# Altium integrated library Altium_Resistor.IntLib: 504 symbols (part 3 of 10)
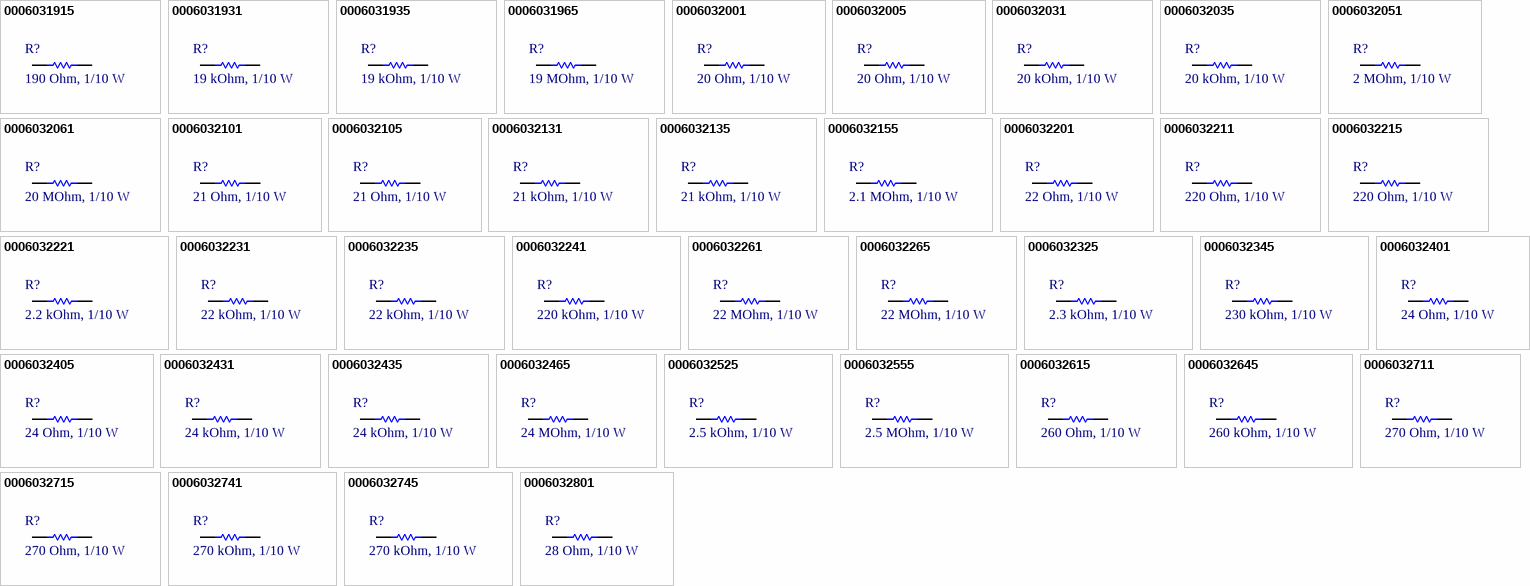
[diagram p17: symbols 0006031915 to 0006032801]

## 0006032215
designator R?, comment 220 Ohm, 1/10 W
RES, size 0603, 220 Ohm, 1/10 W, 5%; Manufacturer: Panasonic; Manufacturer Part Number: ERJ-UP3J221V; Rated Power: 1/10 W; Resistance: 220 Ohm; Tolerance: +/-5%; Supplier 1 URL: https://www.mouser.vn/ProductDetail/Panasonic/ERJ-UP3J221V?qs=GedFDFLaBXFBy%2FTkMi3Z8w%3D%3D; Supplier 3 URL: https://www.thegioiic.com/dien-tro-220-ohm-0603-5; Value: 220 Ohm, 1/10 W; Supplier 2 URL: https://www.digikey.com/en/products/detail/panasonic-electronic-components/ERJ-UP3J221V/12092892?s=N4IgTCBcDaIGxwOwFoCiAlAUsgqgBQGZMwwBGANRAF0BfIA; Packaging: Tape and Reel; Supplier 1: Mouser; Supplier 1 Part Number: 667-ERJ-UP3J221V; Supplier 2: Digi-Key; Supplier 2 Part Number: 10-ERJ-UP3J221VTR-ND - Tape & Reel (TR); Supplier 3: thegioiic; Supplier 3 Part Number: N/A; ComponentLink1Description: Datasheet; ComponentLink1URL: https://www.mouser.vn/datasheet/2/315/Panasonic_Resistors_Thick_Film_Anti_Sulf_Anti_Surg-1825099.pdf; Mount: SMD/SMT; Operating Temperature Max: + 85 C; Operating Temperature Min: - 40 C; Package / Case: 0603; LCSC Part #: N/A
footprint RES_0603 (Chip Resistor, 2-Leads, Body 1.55x0.85mm, IPC Medium Density)
pins: 1, 2

## 0006032221
designator R?, comment 2.2 kOhm, 1/10 W
RES, size 0603, 2.2  kOhm, 1/10 W, 1%; Manufacturer: YAGEO; Manufacturer Part Number: RC0603FR-072K2L; Rated Power: 1/10 W; Tolerance: +/-1%; Resistance: 2.2  kOhm; Supplier 1 URL: https://www.mouser.com/ProductDetail/YAGEO/RC0603FR-072K2L?qs=diQw95jMAeOQmNpe2MM%252BPw%3D%3D; Supplier 3 URL: N/A; Value: 2.2 kOhm, 1/10 W; Supplier 2 URL: https://www.digikey.com/en/products/detail/yageo/RC0603FR-072K2L/727016?s=N4IgTCBcDaIEoGEAMA2JBmAYnAtEg7GANJgAyIAugL5A; Packaging: Tape and Reel; Supplier 1: Mouser; Supplier 1 Part Number: 603-RC0603FR-072K2L; Supplier 2: Digi-Key; Supplier 2 Part Number: 311-2.20KHRTR-ND; Supplier 3: thegioiic; Supplier 3 Part Number: N/A; ComponentLink1Description: Datasheet; ComponentLink1URL: https://www.mouser.com/datasheet/2/447/YAGEO_PYu_RC_Group_51_RoHS_L_12-3313492.pdf; Mount: SMD/SMT; Operating Temperature Max: + 85 C; Operating Temperature Min: - 40 C; Package / Case: 0603; LCSC Part #: C114662
footprint RES_0603 (Chip Resistor, 2-Leads, Body 1.55x0.85mm, IPC Medium Density)
pins: 1, 2

## 0006032231
designator R?, comment 22 kOhm, 1/10 W
RES, size 0603, 22 kOhm, 1/10 W, 1%; Manufacturer: OEM; Resistance: 22 kOhm; Rated Power: 1/10 W; Tolerance: +/-1%; Supplier 1 URL: https://www.mouser.vn/ProductDetail/Panasonic/ERJ-UP3F2202V?qs=sGAEpiMZZMvdGkrng054twq3eZrCFN893x5tBCka%252B6wRswHHN2WaIQ%3D%3D; Supplier 3 URL: N/A; Value: 22 kOhm, 1/10 W; Supplier 2 URL: https://www.digikey.com/en/products/detail/panasonic-electronic-components/ERJ-UP3F2202V/12092693; Packaging: Tape and Reel; Supplier 1: Mouser; Supplier 1 Part Number: 667-ERJ-UP3F2202V; Supplier 2: Digi-Key; Supplier 2 Part Number: 10-ERJ-UP3F2202VTR-ND 10-ERJ-UP3F2202VCT-ND 10-ERJ-UP3F2202VDKR-ND; Supplier 3: thegioiic; Supplier 3 Part Number: N/A; Manufacturer Part Number: OEM; ComponentLink1Description: Datasheet; ComponentLink1URL: https://api.pim.na.industrial.panasonic.com/file_stream/main/fileversion/4484; Mount: SMD/SMT; Operating Temperature Max: + 85 C; Operating Temperature Min: - 40 C; Package / Case: 0603; LCSC Part #: N/A
footprint RES_0603 (Chip Resistor, 2-Leads, Body 1.55x0.85mm, IPC Medium Density)
pins: 1, 2

## 0006032235
designator R?, comment 22 kOhm, 1/10 W
RES, size 0603, 22 kOhm, 1/10 W, 5%; Manufacturer: YAGEO; Manufacturer Part Number: RC0603FR-0722KL; Rated Power: 1/10 W; Resistance: 22 kOhm; Tolerance: +/-5%; Supplier 1 URL: https://www.mouser.vn/ProductDetail/YAGEO/RC0603FR-0722KL?qs=diQw95jMAeO86nsIZoklhA%3D%3D; Supplier 3 URL: https://www.thegioiic.com/dien-tro-22-kohm-0603-5; Value: 22 kOhm, 1/10 W; Supplier 2 URL: https://www.digikey.com/en/products/detail/yageo/rc0603fr-0722kl/727056; Packaging: Tape and Reel; Supplier 1: Mouser; Supplier 1 Part Number: 603-RC0603FR-0722KL; Supplier 2: Digi-Key; Supplier 2 Part Number: 311-22.0KHRTR-ND; Supplier 3: thegioiic; Supplier 3 Part Number: N/A; ComponentLink1Description: Datasheet; ComponentLink1URL: https://www.mouser.vn/datasheet/2/315/Panasonic_Resistors_Thick_Film_Anti_Sulf_Anti_Surg-1825099.pdf; Mount: SMD/SMT; Operating Temperature Max: + 85 C; Operating Temperature Min: - 40 C; Package / Case: 0603; LCSC Part #: C114065
footprint RES_0603 (Chip Resistor, 2-Leads, Body 1.55x0.85mm, IPC Medium Density)
pins: 1, 2

## 0006032241
designator R?, comment 220 kOhm, 1/10 W
RES, size 0603, 220 kOhm, 1/10 W, 1%; Manufacturer: OEM; Rated Power: 1/10 W; Tolerance: +/-1%; Resistance: 220  kOhm; Supplier 1 URL: .moushttps://www.mouser.vn/ProductDetail/Bourns/CR0603-FX-2203ELF?qs=zx2075yZkZLnuw1SjUoEGg%3D%3D; Supplier 3 URL: N/A; Value: 220 kOhm, 1/10 W; Supplier 2 URL: https://www.digikey.com/en/products/detail/walsin-technology-corporation/WR06X2203FTL/13241300; Packaging: Tape and Reel; Supplier 1: Mouser; Supplier 1 Part Number: 791-RMC1/1652-CR0603FX-2203ELF6K2303FTP; Supplier 2: Digi-Key; Supplier 2 Part Number: 1292-WR06X2203FTLTR-ND; Supplier 3: thegioiic; Supplier 3 Part Number: N/A; Manufacturer Part Number: OEM; ComponentLink1Description: Datasheet; ComponentLink1URL: N/A; Mount: SMD/SMT; Operating Temperature Max: + 85 C; Operating Temperature Min: - 40 C; Package / Case: 0603; LCSC Part #: N/A
footprint RES_0603 (Chip Resistor, 2-Leads, Body 1.55x0.85mm, IPC Medium Density)
pins: 1, 2

## 0006032261
designator R?, comment 22 MOhm, 1/10 W
RES, size 0603, 22 MOhm, 1/10 W, 1%; Manufacturer: OEM; Rated Power: 1/10 W; Resistance: 22  MOhm; Tolerance: +/-1%; Supplier 1 URL: https://www.mouser.vn/ProductDetail/Royalohm/0603WAF2205T5E?qs=e8oIoAS2J1QZMv3dmftmzg%3D%3D; Supplier 3 URL: N/A; Value: 22 MOhm, 1/10 W; Supplier 2 URL: https://www.digikey.com/en/products/detail/stackpole-electronics-inc/HVCB0603FKD22M0/6269316; Packaging: Tape and Reel; Supplier 1: Mouser; Supplier 1 Part Number: 303-0603WAF2205T5E; Supplier 2: Digi-Key; Supplier 2 Part Number: HVCB0603FKD22M0-ND; Supplier 3: thegioiic; Supplier 3 Part Number: N/A; Manufacturer Part Number: OEM; ComponentLink1Description: Datasheet; ComponentLink1URL: N/A; Mount: SMD/SMT; Operating Temperature Max: + 85 C; Operating Temperature Min: - 40 C; Package / Case: 0603; LCSC Part #: N/A
footprint RES_0603 (Chip Resistor, 2-Leads, Body 1.55x0.85mm, IPC Medium Density)
pins: 1, 2

## 0006032265
designator R?, comment 22 MOhm, 1/10 W
RES, size 0603, 22 MOhm, 1/10 W, 5%; Manufacturer: OEM; Rated Power: 1/10 W; Resistance: 22 MOhm; Tolerance: +/-5%; Supplier 1 URL: N/A; Supplier 3 URL: N/A; Value: 22 MOhm, 1/10 W; Supplier 2 URL: N/A; Packaging: Tape and Reel; Supplier 1: Mouser; Supplier 1 Part Number: N/A; Supplier 2: Digi-Key; Supplier 2 Part Number: N/A; Supplier 3: thegioiic; Supplier 3 Part Number: N/A; Manufacturer Part Number: OEM; ComponentLink1Description: Datasheet; ComponentLink1URL: N/A; Mount: SMD/SMT; Operating Temperature Max: + 85 C; Operating Temperature Min: - 40 C; Package / Case: 0603; LCSC Part #: N/A
footprint RES_0603 (Chip Resistor, 2-Leads, Body 1.55x0.85mm, IPC Medium Density)
pins: 1, 2

## 0006032325
designator R?, comment 2.3 kOhm, 1/10 W
RES, size 0603, 2.3 kOhm, 1/10 W, 5%; Manufacturer: OEM; Rated Power: 1/10 W; Tolerance: +/-5%; Resistance: 2.3 kOhm; Supplier 1 URL: N/A; Supplier 3 URL: N/A; Value: 2.3 kOhm, 1/10 W; Supplier 2 URL: N/A; Packaging: Tape and Reel; Supplier 1: Mouser; Supplier 1 Part Number: N/A; Supplier 2: Digi-Key; Supplier 2 Part Number: N/A; Supplier 3: thegioiic; Supplier 3 Part Number: N/A; Manufacturer Part Number: OEM; ComponentLink1Description: Datasheet; ComponentLink1URL: N/A; Mount: SMD/SMT; Operating Temperature Max: + 85 C; Operating Temperature Min: - 40 C; Package / Case: 0603; LCSC Part #: N/A
footprint RES_0603 (Chip Resistor, 2-Leads, Body 1.55x0.85mm, IPC Medium Density)
pins: 1, 2

## 0006032345
designator R?, comment 230 kOhm, 1/10 W
RES, size 0603, 230 kOhm, 1/10 W, 5%; Manufacturer: OEM; Rated Power: 1/10 W; Tolerance: +/-5%; Resistance: 230 kOhm; Supplier 1 URL: N/A; Supplier 3 URL: N/A; Value: 230 kOhm, 1/10 W; Supplier 2 URL: N/A; Packaging: Tape and Reel; Supplier 1: Mouser; Supplier 1 Part Number: N/A; Supplier 2: Digi-Key; Supplier 2 Part Number: N/A; Supplier 3: thegioiic; Supplier 3 Part Number: N/A; Manufacturer Part Number: OEM; ComponentLink1Description: Datasheet; ComponentLink1URL: N/A; Mount: SMD/SMT; Operating Temperature Max: + 85 C; Operating Temperature Min: - 40 C; Package / Case: 0603; LCSC Part #: N/A
footprint RES_0603 (Chip Resistor, 2-Leads, Body 1.55x0.85mm, IPC Medium Density)
pins: 1, 2

## 0006032401
designator R?, comment 24 Ohm, 1/10 W
RES, size 0603, 24 Ohm, 1/10 W, 1%; Manufacturer: OEM; Resistance: 24 Ohm; Rated Power: 1/10 W; Tolerance: +/-1%; Supplier 1 URL: https://www.mouser.vn/ProductDetail/ROHM-Semiconductor/ESR03EZPF24R0?qs=sGAEpiMZZMvdGkrng054tywGjayRHxH2im8oingTG1SvGV5YQNaBaA%3D%3D; Supplier 3 URL: N/A; Value: 24 Ohm, 1/10 W; Supplier 2 URL: https://www.digikey.com/en/products/detail/rohm-semiconductor/ESR03EZPF24R0/4007202; Packaging: Tape and Reel; Supplier 1: Mouser; Supplier 1 Part Number: 755-ESR03EZPF24R0; Supplier 2: Digi-Key; Supplier 2 Part Number: ESR03EZPF24R0-ND; Supplier 3: thegioiic; Supplier 3 Part Number: N/A; Manufacturer Part Number: OEM; ComponentLink1Description: Datasheet; ComponentLink1URL: https://fscdn.rohm.com/en/products/databook/datasheet/passive/resistor/chip_resistor/esr-e.pdf; Mount: SMD/SMT; Operating Temperature Max: + 85 C; Operating Temperature Min: - 40 C; Package / Case: 0603; LCSC Part #: N/A
footprint RES_0603 (Chip Resistor, 2-Leads, Body 1.55x0.85mm, IPC Medium Density)
pins: 1, 2

## 0006032405
designator R?, comment 24 Ohm, 1/10 W
RES, size 0603, 24 Ohm, 1/10 W, 5%; Manufacturer: Panasonic; Manufacturer Part Number: ERJ-PA3J240V; Rated Power: 1/10 W; Resistance: 24 Ohm; Tolerance: +/-5%; Supplier 1 URL: https://www.mouser.vn/ProductDetail/Panasonic/ERJ-PA3J240V?qs=BzJM0faLVqUU%252B6Hm0WsZ0A%3D%3D; Supplier 3 URL: N/A; Value: 24 Ohm, 1/10 W; Supplier 2 URL: https://www.digikey.com/en/products/detail/panasonic-electronic-components/ERJ-PA3J240V/5036021?s=N4IgTCBcDaIGxwOwFoCiAlAUsgCgQQGZMwAWABgDUQBdAXyA; Packaging: Tape and Reel; Supplier 1: Mouser; Supplier 1 Part Number: 667-ERJ-PA3J240V; Supplier 2: Digi-Key; Supplier 2 Part Number: P24.00BZTR-ND - Tape & Reel (TR); Supplier 3: thegioiic; Supplier 3 Part Number: N/A; ComponentLink1Description: Datasheet; ComponentLink1URL: https://www.mouser.vn/datasheet/2/315/AOA0000C331-1141874.pdf; Mount: SMD/SMT; Operating Temperature Max: + 85 C; Operating Temperature Min: - 40 C; Package / Case: 0603; LCSC Part #: N/A
footprint RES_0603 (Chip Resistor, 2-Leads, Body 1.55x0.85mm, IPC Medium Density)
pins: 1, 2

## 0006032431
designator R?, comment 24 kOhm, 1/10 W
RES, size 0603, 24 kOhm, 1/10 W, 1%; Manufacturer: OEM; Resistance: 24 kOhm; Rated Power: 1/10 W; Tolerance: +/-1%; Supplier 1 URL: https://www.mouser.vn/ProductDetail/Panasonic/ERJ-UP3F2402V?qs=sGAEpiMZZMvdGkrng054twq3eZrCFN89Fbs5AlXLmHZ21ADlxtC0%252BQ%3D%3D; Supplier 3 URL: N/A; Value: 24 kOhm, 1/10 W; Supplier 2 URL: https://www.digikey.com/en/products/detail/panasonic-electronic-components/ERJ-UP3F2402V/12139426; Packaging: Tape and Reel; Supplier 1: Mouser; Supplier 1 Part Number: 667-ERJ-UP3F2402V; Supplier 2: Digi-Key; Supplier 2 Part Number: 10-ERJ-UP3F2402VTR-ND 10-ERJ-UP3F2402VCT-ND 10-ERJ-UP3F2402VDKR-ND; Supplier 3: thegioiic; Supplier 3 Part Number: N/A; Manufacturer Part Number: OEM; ComponentLink1Description: Datasheet; ComponentLink1URL: https://api.pim.na.industrial.panasonic.com/file_stream/main/fileversion/4484; Mount: SMD/SMT; Operating Temperature Max: + 85 C; Operating Temperature Min: - 40 C; Package / Case: 0603; LCSC Part #: N/A
footprint RES_0603 (Chip Resistor, 2-Leads, Body 1.55x0.85mm, IPC Medium Density)
pins: 1, 2

## 0006032435
designator R?, comment 24 kOhm, 1/10 W
RES, size 0603, 24 kOhm, 1/10 W, 5%; Manufacturer: Panasonic; Manufacturer Part Number: ERJ-PA3J243V; Rated Power: 1/10 W; Resistance: 24 kOhm; Tolerance: +/-5%; Supplier 1 URL: https://www.mouser.vn/ProductDetail/Panasonic/ERJ-PA3J243V?qs=BzJM0faLVqVn1fFhvsLUqw%3D%3D; Supplier 3 URL: https://www.thegioiic.com/dien-tro-24-kohm-0603-5; Value: 24 kOhm, 1/10 W; Supplier 2 URL: https://www.digikey.com/en/products/detail/panasonic-electronic-components/ERJ-PA3J243V/5036024?s=N4IgTCBcDaIGxwOwFoCiAlAUsgCgQQGZMwAWAgNRAF0BfIA; Packaging: Tape and Reel; Supplier 1: Mouser; Supplier 1 Part Number: 667-ERJ-PA3J243V; Supplier 2: Digi-Key; Supplier 2 Part Number: P24KBZTR-ND - Tape & Reel (TR); Supplier 3: thegioiic; Supplier 3 Part Number: N/A; ComponentLink1Description: Datasheet; ComponentLink1URL: https://www.mouser.vn/datasheet/2/315/AOA0000C331-1141874.pdf; Mount: SMD/SMT; Operating Temperature Max: + 85 C; Operating Temperature Min: - 40 C; Package / Case: 0603; LCSC Part #: N/A
footprint RES_0603 (Chip Resistor, 2-Leads, Body 1.55x0.85mm, IPC Medium Density)
pins: 1, 2

## 0006032465
designator R?, comment 24 MOhm, 1/10 W
RES, size 0603, 24 MOhm, 1/10 W, 5%; Manufacturer: OEM; Rated Power: 1/10 W; Resistance: 24 MOhm; Tolerance: +/-5%; Supplier 1 URL: N/A; Supplier 3 URL: N/A; Value: 24 MOhm, 1/10 W; Supplier 2 URL: N/A; Packaging: Tape and Reel; Supplier 1: Mouser; Supplier 1 Part Number: N/A; Supplier 2: Digi-Key; Supplier 2 Part Number: N/A; Supplier 3: thegioiic; Supplier 3 Part Number: N/A; Manufacturer Part Number: OEM; ComponentLink1Description: Datasheet; ComponentLink1URL: N/A; Mount: SMD/SMT; Operating Temperature Max: + 85 C; Operating Temperature Min: - 40 C; Package / Case: 0603; LCSC Part #: N/A
footprint RES_0603 (Chip Resistor, 2-Leads, Body 1.55x0.85mm, IPC Medium Density)
pins: 1, 2

## 0006032525
designator R?, comment 2.5 kOhm, 1/10 W
RES, size 0603, 2.5 kOhm, 1/10 W, 5%; Manufacturer: OEM; Rated Power: 1/10 W; Tolerance: +/-5%; Resistance: 2.5 kOhm; Supplier 1 URL: N/A; Supplier 3 URL: N/A; Value: 2.5 kOhm, 1/10 W; Supplier 2 URL: N/A; Packaging: Tape and Reel; Supplier 1: Mouser; Supplier 1 Part Number: N/A; Supplier 2: Digi-Key; Supplier 2 Part Number: N/A; Supplier 3: thegioiic; Supplier 3 Part Number: N/A; Manufacturer Part Number: OEM; ComponentLink1Description: Datasheet; ComponentLink1URL: N/A; Mount: SMD/SMT; Operating Temperature Max: + 85 C; Operating Temperature Min: - 40 C; Package / Case: 0603; LCSC Part #: N/A
footprint RES_0603 (Chip Resistor, 2-Leads, Body 1.55x0.85mm, IPC Medium Density)
pins: 1, 2

## 0006032555
designator R?, comment 2.5 MOhm, 1/10 W
RES, size 0603, 2.5 MOhm, 1/10 W, 5%; Manufacturer: OEM; Rated Power: 1/10 W; Tolerance: +/-5%; Resistance: 2.5 MOhm; Supplier 1 URL: N/A; Supplier 3 URL: N/A; Value: 2.5 MOhm, 1/10 W; Supplier 2 URL: N/A; Packaging: Tape and Reel; Supplier 1: Mouser; Supplier 1 Part Number: N/A; Supplier 2: Digi-Key; Supplier 2 Part Number: N/A; Supplier 3: thegioiic; Supplier 3 Part Number: N/A; Manufacturer Part Number: OEM; ComponentLink1Description: Datasheet; ComponentLink1URL: N/A; Mount: SMD/SMT; Operating Temperature Max: + 85 C; Operating Temperature Min: - 40 C; Package / Case: 0603; LCSC Part #: N/A
footprint RES_0603 (Chip Resistor, 2-Leads, Body 1.55x0.85mm, IPC Medium Density)
pins: 1, 2

## 0006032615
designator R?, comment 260 Ohm, 1/10 W
RES, size 0603, 260 Ohm, 1/10 W, 5%; Manufacturer: OEM; Rated Power: 1/10 W; Resistance: 260 Ohm; Tolerance: +/-5%; Supplier 1 URL: N/A; Supplier 3 URL: N/A; Value: 260 Ohm, 1/10 W; Supplier 2 URL: N/A; Packaging: Tape and Reel; Supplier 1: Mouser; Supplier 1 Part Number: N/A; Supplier 2: Digi-Key; Supplier 2 Part Number: N/A; Supplier 3: thegioiic; Supplier 3 Part Number: N/A; Manufacturer Part Number: OEM; ComponentLink1Description: Datasheet; ComponentLink1URL: N/A; Mount: SMD/SMT; Operating Temperature Max: + 85 C; Operating Temperature Min: - 40 C; Package / Case: 0603; LCSC Part #: N/A
footprint RES_0603 (Chip Resistor, 2-Leads, Body 1.55x0.85mm, IPC Medium Density)
pins: 1, 2

## 0006032645
designator R?, comment 260 kOhm, 1/10 W
RES, size 0603, 260 kOhm, 1/10 W, 5%; Manufacturer: OEM; Rated Power: 1/10 W; Tolerance: +/-5%; Resistance: 260 kOhm; Supplier 1 URL: N/A; Supplier 3 URL: N/A; Value: 260 kOhm, 1/10 W; Supplier 2 URL: N/A; Packaging: Tape and Reel; Supplier 1: Mouser; Supplier 1 Part Number: N/A; Supplier 2: Digi-Key; Supplier 2 Part Number: N/A; Supplier 3: thegioiic; Supplier 3 Part Number: N/A; Manufacturer Part Number: OEM; ComponentLink1Description: Datasheet; ComponentLink1URL: N/A; Mount: SMD/SMT; Operating Temperature Max: + 85 C; Operating Temperature Min: - 40 C; Package / Case: 0603; LCSC Part #: N/A
footprint RES_0603 (Chip Resistor, 2-Leads, Body 1.55x0.85mm, IPC Medium Density)
pins: 1, 2

## 0006032711
designator R?, comment 270 Ohm, 1/10 W
RES, size 0603, 270 Ohm, 1/10 W, 1%; Manufacturer: OEM; Rated Power: 1/10 W; Resistance: 270 Ohm; Tolerance: +/-1%; Supplier 1 URL: https://www.mouser.vn/ProductDetail/ROHM-Semiconductor/SFR03EZPF2700?qs=MyNHzdoqoQLTAjmn%2FiOVwA%3D%3D; Supplier 3 URL: N/A; Value: 270 Ohm, 1/10 W; Supplier 2 URL: https://www.digikey.com/en/products/detail/yageo/RC0603FR-13270RL/14286751; Packaging: Tape and Reel; Supplier 1: Mouser; Supplier 1 Part Number: 755-SFR03EZPF2700; Supplier 2: Digi-Key; Supplier 2 Part Number: 13-RC0603FR-13270RLTR-ND; Supplier 3: thegioiic; Supplier 3 Part Number: N/A; Manufacturer Part Number: OEM; ComponentLink1Description: Datasheet; ComponentLink1URL: N/A; Mount: SMD/SMT; Operating Temperature Max: + 85 C; Operating Temperature Min: - 40 C; Package / Case: 0603; LCSC Part #: N/A
footprint RES_0603 (Chip Resistor, 2-Leads, Body 1.55x0.85mm, IPC Medium Density)
pins: 1, 2

## 0006032715
designator R?, comment 270 Ohm, 1/10 W
RES, size 0603, 270 Ohm, 1/10 W, 5%; Manufacturer: Panasonic; Manufacturer Part Number: ERJ-UP3J271V; Rated Power: 1/10 W; Resistance: 270 Ohm; Tolerance: +/-5%; Supplier 1 URL: https://www.mouser.vn/ProductDetail/Panasonic/ERJ-UP3J271V?qs=GedFDFLaBXEucStQ6Hh57Q%3D%3D; Supplier 3 URL: https://www.thegioiic.com/dien-tro-270-ohm-0603-5; Value: 270 Ohm, 1/10 W; Supplier 2 URL: https://www.digikey.com/en/products/detail/panasonic-electronic-components/ERJ-UP3J271V/12092330?s=N4IgTCBcDaIGxwOwFoCiAlAUsgqgBQGZMxEBGANRAF0BfIA; Packaging: Tape and Reel; Supplier 1: Mouser; Supplier 1 Part Number: 667-ERJ-UP3J271V; Supplier 2: Digi-Key; Supplier 2 Part Number: 667-ERJ-UP3J271V; Supplier 3: thegioiic; Supplier 3 Part Number: N/A; ComponentLink1Description: Datasheet; ComponentLink1URL: https://www.mouser.vn/datasheet/2/315/Panasonic_Resistors_Thick_Film_Anti_Sulf_Anti_Surg-1825099.pdf; Mount: SMD/SMT; Operating Temperature Max: + 85 C; Operating Temperature Min: - 40 C; Package / Case: 0603; LCSC Part #: N/A
footprint RES_0603 (Chip Resistor, 2-Leads, Body 1.55x0.85mm, IPC Medium Density)
pins: 1, 2

## 0006032741
designator R?, comment 270 kOhm, 1/10 W
RES, size 0603, 270 kOhm, 1/10 W, 1%; Manufacturer: OEM; Rated Power: 1/10 W; Tolerance: +/-1%; Resistance: 270 kOhm; Supplier 1 URL: https://www.mouser.vn/ProductDetail/Panasonic/ERJ-UP3F2703V?qs=sGAEpiMZZMvdGkrng054twq3eZrCFN89fH%252BEpMTLyCa9thfbmj%252BoGg%3D%3D; Supplier 3 URL: N/A; Value: 270 kOhm, 1/10 W; Supplier 2 URL: https://www.digikey.com/en/products/detail/panasonic-electronic-components/ERJ-UP3F2703V/12092823; Packaging: Tape and Reel; Supplier 1: Mouser; Supplier 1 Part Number: 667-ERJ-UP3F2703V; Supplier 2: Digi-Key; Supplier 2 Part Number: 10-ERJ-UP3F2703VTR-ND 10-ERJ-UP3F2703VCT-ND 10-ERJ-UP3F2703VDKR-ND; Supplier 3: thegioiic; Supplier 3 Part Number: N/A; Manufacturer Part Number: OEM; ComponentLink1Description: Datasheet; ComponentLink1URL: https://api.pim.na.industrial.panasonic.com/file_stream/main/fileversion/4484; Mount: SMD/SMT; Operating Temperature Max: + 85 C; Operating Temperature Min: - 40 C; Package / Case: 0603; LCSC Part #: N/A
footprint RES_0603 (Chip Resistor, 2-Leads, Body 1.55x0.85mm, IPC Medium Density)
pins: 1, 2

## 0006032745
designator R?, comment 270 kOhm, 1/10 W
RES, size 0603, 270 kOhm, 1/10 W, 5%; Manufacturer: Panasonic; Manufacturer Part Number: ERJ-PA3J274V; Rated Power: 1/10 W; Tolerance: +/-5%; Resistance: 270 kOhm; Supplier 1 URL: https://www.mouser.vn/ProductDetail/Panasonic/ERJ-PA3J274V?qs=BzJM0faLVqVi3SgZ0mtcxw%3D%3D; Supplier 3 URL: N/A; Value: 270 kOhm, 1/10 W; Supplier 2 URL: https://www.digikey.com/en/products/detail/panasonic-electronic-components/ERJ-PA3J274V/5036030?s=N4IgTCBcDaIGxwOwFoCiAlAUsgCgQQGZMxEAWANRAF0BfIA; Packaging: Tape and Reel; Supplier 1: Mouser; Supplier 1 Part Number: 667-ERJ-PA3J274V; Supplier 2: Digi-Key; Supplier 2 Part Number: P270KBZTR-ND - Tape & Reel (TR); Supplier 3: thegioiic; Supplier 3 Part Number: N/A; ComponentLink1Description: Datasheet; ComponentLink1URL: https://www.mouser.vn/datasheet/2/315/AOA0000C331-1141874.pdf; Mount: SMD/SMT; Operating Temperature Max: + 85 C; Operating Temperature Min: - 40 C; Package / Case: 0603; LCSC Part #: N/A
footprint RES_0603 (Chip Resistor, 2-Leads, Body 1.55x0.85mm, IPC Medium Density)
pins: 1, 2

## 0006032801
designator R?, comment 28 Ohm, 1/10 W
RES, size 0603, 28 Ohm, 1/10 W, 1%; Manufacturer: OEM; Resistance: 28 Ohm; Rated Power: 1/10 W; Tolerance: +/-1%; Supplier 1 URL: https://www.mouser.vn/ProductDetail/Panasonic/ERJ-PA3F28R0V?qs=sGAEpiMZZMvdGkrng054t6%2FAfIpq60YD5y71hYQ1i3rQySijSHDQhg%3D%3D; Supplier 3 URL: N/A; Value: 28 Ohm, 1/10 W; Supplier 2 URL: https://www.digikey.com/en/products/detail/panasonic-electronic-components/ERJ-UP3F28R0V/12092047; Packaging: Tape and Reel; Supplier 1: Mouser; Supplier 1 Part Number: 667-ERJ-PA3F28R0V; Supplier 2: Digi-Key; Supplier 2 Part Number: 10-ERJ-UP3F28R0VTR-ND; Supplier 3: thegioiic; Supplier 3 Part Number: N/A; Manufacturer Part Number: OEM; ComponentLink1Description: Datasheet; ComponentLink1URL: https://api.pim.na.industrial.panasonic.com/file_stream/main/fileversion/4484; Mount: SMD/SMT; Operating Temperature Max: + 85 C; Operating Temperature Min: - 40 C; Package / Case: 0603; LCSC Part #: N/A
footprint RES_0603 (Chip Resistor, 2-Leads, Body 1.55x0.85mm, IPC Medium Density)
pins: 1, 2

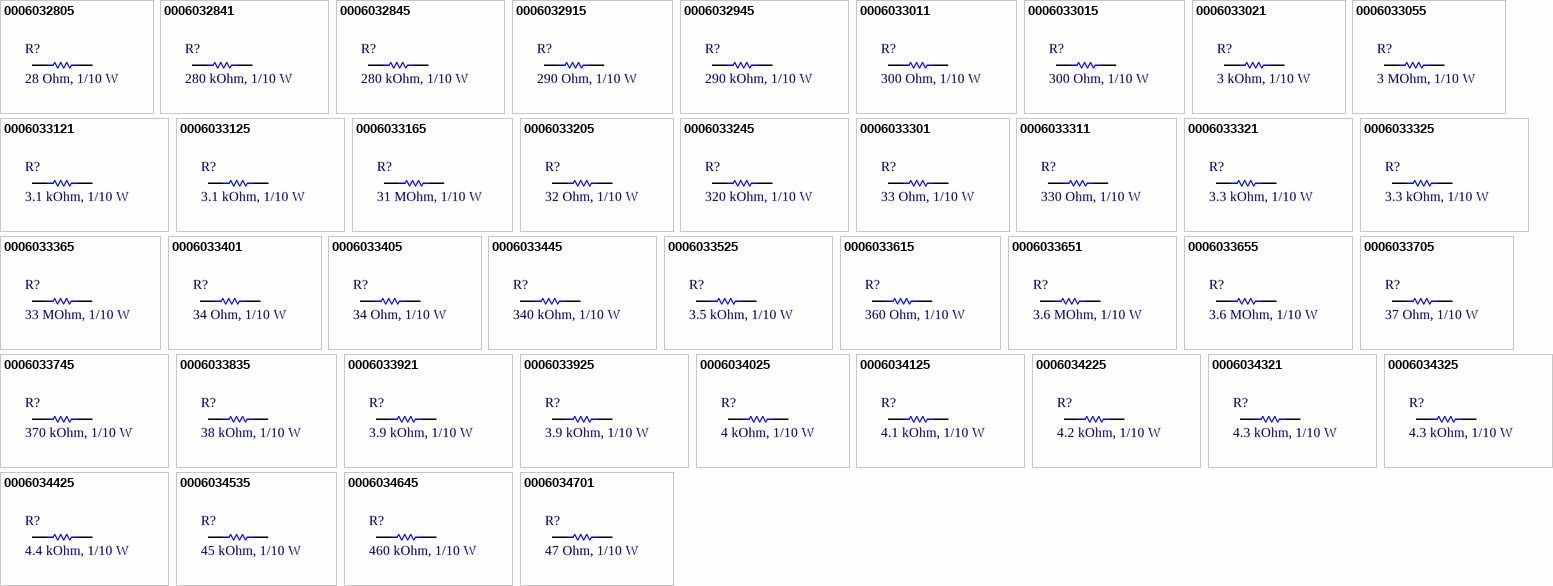
[diagram p3: symbols 0006032805 to 0006034701]

## 0006032805
designator R?, comment 28 Ohm, 1/10 W
RES, size 0603, 28 Ohm, 1/10 W, 5%; Manufacturer: OEM; Rated Power: 1/10 W; Resistance: 28 Ohm; Tolerance: +/-5%; Supplier 1 URL: N/A; Supplier 3 URL: N/A; Value: 28 Ohm, 1/10 W; Supplier 2 URL: N/A; Packaging: Tape and Reel; Supplier 1: Mouser; Supplier 1 Part Number: N/A; Supplier 2: Digi-Key; Supplier 2 Part Number: N/A; Supplier 3: thegioiic; Supplier 3 Part Number: N/A; Manufacturer Part Number: OEM; ComponentLink1Description: Datasheet; ComponentLink1URL: N/A; Mount: SMD/SMT; Operating Temperature Max: + 85 C; Operating Temperature Min: - 40 C; Package / Case: 0603; LCSC Part #: N/A
footprint RES_0603 (Chip Resistor, 2-Leads, Body 1.55x0.85mm, IPC Medium Density)
pins: 1, 2

## 0006032841
designator R?, comment 280 kOhm, 1/10 W
RES, size 0603, 280 kOhm, 1/10 W, 1%; Manufacturer: OEM; Rated Power: 1/10 W; Tolerance: +/-1%; Resistance: 280 kOhm; Supplier 1 URL: https://www.mouser.vn/ProductDetail/Panasonic/ERJ-PA3F2803V?qs=sGAEpiMZZMvdGkrng054t6%2FAfIpq60YDxqM9CyXofQR4ZT45H2b2Ww%3D%3D; Supplier 3 URL: N/A; Value: 280 kOhm, 1/10 W; Supplier 2 URL: https://www.digikey.com/en/products/detail/panasonic-electronic-components/ERJ-UP3F2803V/12092419; Packaging: Tape and Reel; Supplier 1: Mouser; Supplier 1 Part Number: 667-ERJ-PA3F2803V; Supplier 2: Digi-Key; Supplier 2 Part Number: 10-ERJ-UP3F2803VTR-ND; Supplier 3: thegioiic; Supplier 3 Part Number: N/A; Manufacturer Part Number: OEM; ComponentLink1Description: Datasheet; ComponentLink1URL: https://api.pim.na.industrial.panasonic.com/file_stream/main/fileversion/4484; Mount: SMD/SMT; Operating Temperature Max: + 85 C; Operating Temperature Min: - 40 C; Package / Case: 0603; LCSC Part #: N/A
footprint RES_0603 (Chip Resistor, 2-Leads, Body 1.55x0.85mm, IPC Medium Density)
pins: 1, 2

## 0006032845
designator R?, comment 280 kOhm, 1/10 W
RES, size 0603, 280 kOhm, 1/10 W, 5%; Manufacturer: OEM; Rated Power: 1/10 W; Tolerance: +/-5%; Resistance: 280 kOhm; Supplier 1 URL: N/A; Supplier 3 URL: N/A; Value: 280 kOhm, 1/10 W; Supplier 2 URL: N/A; Packaging: Tape and Reel; Supplier 1: Mouser; Supplier 1 Part Number: N/A; Supplier 2: Digi-Key; Supplier 2 Part Number: N/A; Supplier 3: thegioiic; Supplier 3 Part Number: N/A; Manufacturer Part Number: OEM; ComponentLink1Description: Datasheet; ComponentLink1URL: N/A; Mount: SMD/SMT; Operating Temperature Max: + 85 C; Operating Temperature Min: - 40 C; Package / Case: 0603; LCSC Part #: N/A
footprint RES_0603 (Chip Resistor, 2-Leads, Body 1.55x0.85mm, IPC Medium Density)
pins: 1, 2

## 0006032915
designator R?, comment 290 Ohm, 1/10 W
RES, size 0603, 290 Ohm, 1/10 W, 5%; Manufacturer: OEM; Rated Power: 1/10 W; Resistance: 290 Ohm; Tolerance: +/-5%; Supplier 1 URL: N/A; Supplier 3 URL: N/A; Value: 290 Ohm, 1/10 W; Supplier 2 URL: N/A; Packaging: Tape and Reel; Supplier 1: Mouser; Supplier 1 Part Number: N/A; Supplier 2: Digi-Key; Supplier 2 Part Number: N/A; Supplier 3: thegioiic; Supplier 3 Part Number: N/A; Manufacturer Part Number: OEM; ComponentLink1Description: Datasheet; ComponentLink1URL: N/A; Mount: SMD/SMT; Operating Temperature Max: + 85 C; Operating Temperature Min: - 40 C; Package / Case: 0603; LCSC Part #: N/A
footprint RES_0603 (Chip Resistor, 2-Leads, Body 1.55x0.85mm, IPC Medium Density)
pins: 1, 2

## 0006032945
designator R?, comment 290 kOhm, 1/10 W
RES, size 0603, 290 kOhm, 1/10 W, 5%; Manufacturer: OEM; Rated Power: 1/10 W; Tolerance: +/-5%; Resistance: 290 kOhm; Supplier 1 URL: N/A; Supplier 3 URL: N/A; Value: 290 kOhm, 1/10 W; Supplier 2 URL: N/A; Packaging: Tape and Reel; Supplier 1: Mouser; Supplier 1 Part Number: N/A; Supplier 2: Digi-Key; Supplier 2 Part Number: N/A; Supplier 3: thegioiic; Supplier 3 Part Number: N/A; Manufacturer Part Number: OEM; ComponentLink1Description: Datasheet; ComponentLink1URL: N/A; Mount: SMD/SMT; Operating Temperature Max: + 85 C; Operating Temperature Min: - 40 C; Package / Case: 0603; LCSC Part #: N/A
footprint RES_0603 (Chip Resistor, 2-Leads, Body 1.55x0.85mm, IPC Medium Density)
pins: 1, 2

## 0006033011
designator R?, comment 300 Ohm, 1/10 W
RES, size 0603, 300 Ohm, 1/10 W, 1%; Manufacturer: OEM; Rated Power: 1/10 W; Resistance: 300 Ohm; Tolerance: +/-1%; Supplier 1 URL: https://www.mouser.vn/ProductDetail/ROHM-Semiconductor/SDR03EZPF3000?qs=MyNHzdoqoQKYsGXohuNk8Q%3D%3D; Supplier 3 URL: N/A; Value: 300 Ohm, 1/10 W; Supplier 2 URL: https://www.digikey.com/en/products/detail/yageo/RC0603FR-10300RL/14008461; Packaging: Tape and Reel; Supplier 1: Mouser; Supplier 1 Part Number: 755-SDR03EZPF3000; Supplier 2: Digi-Key; Supplier 2 Part Number: 13-RC0603FR-10300RLTR-ND; Supplier 3: thegioiic; Supplier 3 Part Number: N/A; Manufacturer Part Number: OEM; ComponentLink1Description: Datasheet; ComponentLink1URL: N/A; Mount: SMD/SMT; Operating Temperature Max: + 85 C; Operating Temperature Min: - 40 C; Package / Case: 0603; LCSC Part #: N/A
footprint RES_0603 (Chip Resistor, 2-Leads, Body 1.55x0.85mm, IPC Medium Density)
pins: 1, 2

## 0006033015
designator R?, comment 300 Ohm, 1/10 W
RES, size 0603, 300 Ohm, 1/10 W, 5%; Manufacturer: Panasonic; Manufacturer Part Number: ERJ-UP3J301V; Rated Power: 1/10 W; Resistance: 300 Ohm; Tolerance: +/-5%; Supplier 1 URL: https://www.mouser.vn/ProductDetail/Panasonic/ERJ-UP3J301V?qs=GedFDFLaBXHbZaTTwHvSvA%3D%3D; Supplier 3 URL: N/A; Value: 300 Ohm, 1/10 W; Supplier 2 URL: https://www.digikey.com/en/products/detail/panasonic-electronic-components/ERJ-UP3J301V/12093121?s=N4IgTCBcDaIGxwOwFoCiAlAUsgqgBQGZMCAGARgDUQBdAXyA; Packaging: Tape and Reel; Supplier 1: Mouser; Supplier 1 Part Number: 667-ERJ-UP3J301V; Supplier 2: Digi-Key; Supplier 2 Part Number: 10-ERJ-UP3J301VTR-ND - Tape & Reel (TR); Supplier 3: thegioiic; Supplier 3 Part Number: N/A; ComponentLink1Description: Datasheet; ComponentLink1URL: https://www.mouser.vn/datasheet/2/315/Panasonic_Resistors_Thick_Film_Anti_Sulf_Anti_Surg-1825099.pdf; Mount: SMD/SMT; Operating Temperature Max: + 85 C; Operating Temperature Min: - 40 C; Package / Case: 0603; LCSC Part #: N/A
footprint RES_0603 (Chip Resistor, 2-Leads, Body 1.55x0.85mm, IPC Medium Density)
pins: 1, 2

## 0006033021
designator R?, comment 3 kOhm, 1/10 W
RES, size 0603, 3 kOhm, 1/10 W, 1%; Manufacturer: YAGEO; Manufacturer Part Number: RC0603FR-073KL; Rated Power: 1/10 W; Resistance: 3  kOhm; Tolerance: +/-1%; Supplier 1 URL: https://www.mouser.com/ProductDetail/YAGEO/RC0603FR-073KL?qs=gt6vzsuosg28N5hJbu0EKA%3D%3D; Supplier 3 URL: N/A; Value: 3 kOhm, 1/10 W; Supplier 2 URL: https://www.digikey.com/en/products/detail/yageo/rc0603fr-073kl/727119; Packaging: Tape and Reel; Supplier 1: Mouser; Supplier 1 Part Number: 603-RC0603FR-073KL; Supplier 2: Digi-Key; Supplier 2 Part Number: 311-3.00KHRTR-ND; Supplier 3: thegioiic; Supplier 3 Part Number: N/A; ComponentLink1Description: Datasheet; ComponentLink1URL: https://www.mouser.com/datasheet/2/447/YAGEO_PYu_RC_Group_51_RoHS_L_12-3313492.pdf; Mount: SMD/SMT; Operating Temperature Max: + 85 C; Operating Temperature Min: - 40 C; Package / Case: 0603; LCSC Part #: C126358
footprint RES_0603 (Chip Resistor, 2-Leads, Body 1.55x0.85mm, IPC Medium Density)
pins: 1, 2

## 0006033055
designator R?, comment 3 MOhm, 1/10 W
RES, size 0603, 3 MOhm, 1/10 W, 5%; Manufacturer: ROHM Semicondutor; Manufacturer Part Number: ESR03EZPJ305; Rated Power: 1/10 W; Resistance: 3 MOhm; Tolerance: +/-5%; Supplier 1 URL: https://www.mouser.vn/ProductDetail/ROHM-Semiconductor/ESR03EZPJ305?qs=493kPxzlxfLrDGxSq1%2FUyw%3D%3D; Supplier 3 URL: N/A; Value: 3 MOhm, 1/10 W; Supplier 2 URL: https://www.digikey.com/en/products/detail/rohm-semiconductor/ESR03EZPJ305/4051238?s=N4IgTCBcDaIOwFYEFoCiBlASgBgMyoC0AFAKV2wRAF0BfIA; Packaging: Tape and Reel; Supplier 1: Mouser; Supplier 1 Part Number: 755-ESR03EZPJ305; Supplier 2: Digi-Key; Supplier 2 Part Number: RHM3MDTR-ND - Tape & Reel (TR); Supplier 3: thegioiic; Supplier 3 Part Number: N/A; ComponentLink1Description: Datasheet; ComponentLink1URL: https://www.mouser.vn/datasheet/2/348/ROHM_S_A0011075102_1-2563252.pdf; Mount: SMD/SMT; Operating Temperature Max: + 85 C; Operating Temperature Min: - 40 C; Package / Case: 0603; LCSC Part #: N/A
footprint RES_0603 (Chip Resistor, 2-Leads, Body 1.55x0.85mm, IPC Medium Density)
pins: 1, 2

## 0006033121
designator R?, comment 3.1 kOhm, 1/10 W
RES, size 0603, 3.1 kOhm, 1/10 W, 1%; Manufacturer: OEM; Rated Power: 1/10 W; Tolerance: +/-1%; Resistance: 3.1  kOhm; Supplier 1 URL: https://www.mouser.vn/ProductDetail/Bourns/CHP0603-FX-3011ELF?qs=gZXFycFWdAOzN1n7XWkwdg%3D%3D; Supplier 3 URL: N/A; Value: 3.1 kOhm, 1/10 W; Supplier 2 URL: https://www.digikey.com/en/products/detail/vishay-beyschlag-draloric-bc-components/MCT06030C3101FP500/8124767; Packaging: Tape and Reel; Supplier 1: Mouser; Supplier 1 Part Number: 652-CHP0603FX3011ELF; Supplier 2: Digi-Key; Supplier 2 Part Number: MCT06030C3101FP500-ND; Supplier 3: thegioiic; Supplier 3 Part Number: N/A; Manufacturer Part Number: OEM; ComponentLink1Description: Datasheet; ComponentLink1URL: N/A; Mount: SMD/SMT; Operating Temperature Max: + 85 C; Operating Temperature Min: - 40 C; Package / Case: 0603; LCSC Part #: N/A
footprint RES_0603 (Chip Resistor, 2-Leads, Body 1.55x0.85mm, IPC Medium Density)
pins: 1, 2

## 0006033125
designator R?, comment 3.1 kOhm, 1/10 W
RES, size 0603, 3.1 kOhm, 1/10 W, 5%; Manufacturer: OEM; Rated Power: 1/10 W; Tolerance: +/-5%; Resistance: 3.1 kOhm; Supplier 1 URL: N/A; Supplier 3 URL: N/A; Value: 3.1 kOhm, 1/10 W; Supplier 2 URL: N/A; Packaging: Tape and Reel; Supplier 1: Mouser; Supplier 1 Part Number: N/A; Supplier 2: Digi-Key; Supplier 2 Part Number: N/A; Supplier 3: thegioiic; Supplier 3 Part Number: N/A; Manufacturer Part Number: OEM; ComponentLink1Description: Datasheet; ComponentLink1URL: N/A; Mount: SMD/SMT; Operating Temperature Max: + 85 C; Operating Temperature Min: - 40 C; Package / Case: 0603; LCSC Part #: N/A
footprint RES_0603 (Chip Resistor, 2-Leads, Body 1.55x0.85mm, IPC Medium Density)
pins: 1, 2

## 0006033165
designator R?, comment 31 MOhm, 1/10 W
RES, size 0603, 31 MOhm, 1/10 W, 5%; Manufacturer: OEM; Rated Power: 1/10 W; Resistance: 31 MOhm; Tolerance: +/-5%; Supplier 1 URL: N/A; Supplier 3 URL: N/A; Value: 31 MOhm, 1/10 W; Supplier 2 URL: N/A; Packaging: Tape and Reel; Supplier 1: Mouser; Supplier 1 Part Number: N/A; Supplier 2: Digi-Key; Supplier 2 Part Number: N/A; Supplier 3: thegioiic; Supplier 3 Part Number: N/A; Manufacturer Part Number: OEM; ComponentLink1Description: Datasheet; ComponentLink1URL: N/A; Mount: SMD/SMT; Operating Temperature Max: + 85 C; Operating Temperature Min: - 40 C; Package / Case: 0603; LCSC Part #: N/A
footprint RES_0603 (Chip Resistor, 2-Leads, Body 1.55x0.85mm, IPC Medium Density)
pins: 1, 2

## 0006033205
designator R?, comment 32 Ohm, 1/10 W
RES, size 0603, 32 Ohm, 1/10 W, 5%; Manufacturer: OEM; Rated Power: 1/10 W; Resistance: 32 Ohm; Tolerance: +/-5%; Supplier 1 URL: N/A; Supplier 3 URL: N/A; Value: 32 Ohm, 1/10 W; Supplier 2 URL: N/A; Packaging: Tape and Reel; Supplier 1: Mouser; Supplier 1 Part Number: N/A; Supplier 2: Digi-Key; Supplier 2 Part Number: N/A; Supplier 3: thegioiic; Supplier 3 Part Number: N/A; Manufacturer Part Number: OEM; ComponentLink1Description: Datasheet; ComponentLink1URL: N/A; Mount: SMD/SMT; Operating Temperature Max: + 85 C; Operating Temperature Min: - 40 C; Package / Case: 0603; LCSC Part #: N/A
footprint RES_0603 (Chip Resistor, 2-Leads, Body 1.55x0.85mm, IPC Medium Density)
pins: 1, 2

## 0006033245
designator R?, comment 320 kOhm, 1/10 W
RES, size 0603, 320 kOhm, 1/10 W, 5%; Manufacturer: OEM; Rated Power: 1/10 W; Tolerance: +/-5%; Resistance: 320 kOhm; Supplier 1 URL: N/A; Supplier 3 URL: N/A; Value: 320 kOhm, 1/10 W; Supplier 2 URL: N/A; Packaging: Tape and Reel; Supplier 1: Mouser; Supplier 1 Part Number: N/A; Supplier 2: Digi-Key; Supplier 2 Part Number: N/A; Supplier 3: thegioiic; Supplier 3 Part Number: N/A; Manufacturer Part Number: OEM; ComponentLink1Description: Datasheet; ComponentLink1URL: N/A; Mount: SMD/SMT; Operating Temperature Max: + 85 C; Operating Temperature Min: - 40 C; Package / Case: 0603; LCSC Part #: N/A
footprint RES_0603 (Chip Resistor, 2-Leads, Body 1.55x0.85mm, IPC Medium Density)
pins: 1, 2

## 0006033301
designator R?, comment 33 Ohm, 1/10 W
RES, size 0603, 33 Ohm, 1/10 W, 1%; Manufacturer: OEM; Resistance: 33 Ohm; Rated Power: 1/10 W; Tolerance: +/-1%; Supplier 1 URL: https://www.mouser.vn/ProductDetail/Panasonic/ERJ-UP3F33R0V?qs=sGAEpiMZZMvdGkrng054twq3eZrCFN89SIaxCOiI%2FLhwYCTxSQzpaA%3D%3D; Supplier 3 URL: N/A; Value: 33 Ohm, 1/10 W; Supplier 2 URL: https://www.digikey.com/en/products/detail/panasonic-electronic-components/ERJ-UP3F33R0V/12092441; Packaging: Tape and Reel; Supplier 1: Mouser; Supplier 1 Part Number: 667-ERJ-UP3F33R0V; Supplier 2: Digi-Key; Supplier 2 Part Number: 10-ERJ-UP3F33R0VTR-ND 10-ERJ-UP3F33R0VCT-ND 10-ERJ-UP3F33R0VDKR-ND; Supplier 3: thegioiic; Supplier 3 Part Number: N/A; Manufacturer Part Number: OEM; ComponentLink1Description: Datasheet; ComponentLink1URL: https://api.pim.na.industrial.panasonic.com/file_stream/main/fileversion/4484; Mount: SMD/SMT; Operating Temperature Max: + 85 C; Operating Temperature Min: - 40 C; Package / Case: 0603; LCSC Part #: N/A
footprint RES_0603 (Chip Resistor, 2-Leads, Body 1.55x0.85mm, IPC Medium Density)
pins: 1, 2

## 0006033311
designator R?, comment 330 Ohm, 1/10 W
RES, size 0603, 330 Ohm, 1/10 W, 1%; Manufacturer: YAGEO; Manufacturer Part Number: RC0603FR-07330RL; Resistance: 330 Ohm; Rated Power: 1/10 W; Tolerance: +/-1%; Supplier 1 URL: https://www.mouser.vn/ProductDetail/Panasonic/ERJ-UP3F3300V?qs=sGAEpiMZZMvdGkrng054twq3eZrCFN89MDZusw5Tf7mZnfRSpxxqIA%3D%3D; Supplier 3 URL: N/A; Value: 330 Ohm, 1/10 W; Supplier 2 URL: https://www.digikey.com/en/products/detail/panasonic-electronic-components/ERJ-UP3F3300V/12093106; Packaging: Tape and Reel; Supplier 1: Mouser; Supplier 1 Part Number: 667-ERJ-UP3F3300V; Supplier 2: Digi-Key; Supplier 2 Part Number: 10-ERJ-UP3F3300VTR-ND 10-ERJ-UP3F3300VCT-ND 10-ERJ-UP3F3300VDKR-ND; Supplier 3: thegioiic; Supplier 3 Part Number: N/A; ComponentLink1Description: Datasheet; ComponentLink1URL: https://api.pim.na.industrial.panasonic.com/file_stream/main/fileversion/4484; Mount: SMD/SMT; Operating Temperature Max: + 85 C; Operating Temperature Min: - 40 C; Package / Case: 0603; LCSC Part #: C105881
footprint RES_0603 (Chip Resistor, 2-Leads, Body 1.55x0.85mm, IPC Medium Density)
pins: 1, 2

## 0006033321
designator R?, comment 3.3 kOhm, 1/10 W
RES, size 0603, 3.3 kOhm, 1/10 W, 1%; Manufacturer: YAGEO; Manufacturer Part Number: RC0603FR-073K3L; Rated Power: 1/10 W; Tolerance: +/-1%; Resistance: 3.3 kOhm; Supplier 1 URL: https://www.mouser.vn/ProductDetail/YAGEO/RC0603FR-073K3L?qs=gt6vzsuosg2EoNiKbtAsfQ%3D%3D; Supplier 3 URL: https://www.thegioiic.com/dien-tro-3-3-kohm-0603-1-; Value: 3.3 kOhm, 1/10 W; Supplier 2 URL: https://www.digikey.com/en/products/detail/yageo/rc0603fr-073k3l/727126; Packaging: Tape and Reel; Supplier 1: Mouser; Supplier 1 Part Number: 603-RC0603FR-073K3L; Supplier 2: Digi-Key; Supplier 2 Part Number: 311-3.30KHRTR-ND; Supplier 3: thegioiic; Supplier 3 Part Number: N/A; ComponentLink1Description: Datasheet; ComponentLink1URL: https://api.pim.na.industrial.panasonic.com/file_stream/main/fileversion/4484; Mount: SMD/SMT; Operating Temperature Max: + 85 C; Operating Temperature Min: - 40 C; Package / Case: 0603; LCSC Part #: C108078
footprint RES_0603 (Chip Resistor, 2-Leads, Body 1.55x0.85mm, IPC Medium Density)
pins: 1, 2

## 0006033325
designator R?, comment 3.3 kOhm, 1/10 W
RES, size 0603, 3.3 kOhm, 1/10 W, 5%; Manufacturer: YAGEO; Manufacturer Part Number: RC0603FR-073K3L; Rated Power: 1/10 W; Tolerance: +/-5%; Resistance: 3.3 kOhm; Supplier 1 URL: https://www.mouser.vn/ProductDetail/YAGEO/RC0603FR-073K3L?qs=gt6vzsuosg2EoNiKbtAsfQ%3D%3D; Supplier 3 URL: N/A; Value: 3.3 kOhm, 1/10 W; Supplier 2 URL: https://www.digikey.com/en/products/detail/yageo/rc0603fr-073k3l/727126; Packaging: Tape and Reel; Supplier 1: Mouser; Supplier 1 Part Number: 603-RC0603FR-073K3L; Supplier 2: Digi-Key; Supplier 2 Part Number: 311-3.30KHRTR-ND; Supplier 3: thegioiic; Supplier 3 Part Number: N/A; ComponentLink1Description: Datasheet; ComponentLink1URL: https://www.mouser.vn/datasheet/2/315/Panasonic_Resistors_Thick_Film_Anti_Sulf_Anti_Surg-1825099.pdf; Mount: SMD/SMT; Operating Temperature Max: + 85 C; Operating Temperature Min: - 40 C; Package / Case: 0603; LCSC Part #: C108078
footprint RES_0603 (Chip Resistor, 2-Leads, Body 1.55x0.85mm, IPC Medium Density)
pins: 1, 2

## 0006033365
designator R?, comment 33 MOhm, 1/10 W
RES, size 0603, 33 MOhm, 1/10 W, 5%; Manufacturer: OEM; Rated Power: 1/10 W; Resistance: 33 MOhm; Tolerance: +/-5%; Supplier 1 URL: N/A; Supplier 3 URL: N/A; Value: 33 MOhm, 1/10 W; Supplier 2 URL: N/A; Packaging: Tape and Reel; Supplier 1: Mouser; Supplier 1 Part Number: N/A; Supplier 2: Digi-Key; Supplier 2 Part Number: N/A; Supplier 3: thegioiic; Supplier 3 Part Number: N/A; Manufacturer Part Number: OEM; ComponentLink1Description: Datasheet; ComponentLink1URL: N/A; Mount: SMD/SMT; Operating Temperature Max: + 85 C; Operating Temperature Min: - 40 C; Package / Case: 0603; LCSC Part #: N/A
footprint RES_0603 (Chip Resistor, 2-Leads, Body 1.55x0.85mm, IPC Medium Density)
pins: 1, 2

## 0006033401
designator R?, comment 34 Ohm, 1/10 W
RES, size 0603, 34 Ohm, 1/10 W, 1%; Manufacturer: OEM; Resistance: 34 Ohm; Rated Power: 1/10 W; Tolerance: +/-1%; Supplier 1 URL: https://www.mouser.vn/ProductDetail/Panasonic/ERJ-PA3F34R0V?qs=sGAEpiMZZMvdGkrng054t6%2FAfIpq60YDFpgNmxonQxDNwfArcaAbgA%3D%3D; Supplier 3 URL: N/A; Value: 34 Ohm, 1/10 W; Supplier 2 URL: https://www.digikey.com/en/products/detail/panasonic-electronic-components/ERJ-UP3F34R0V/12092872; Packaging: Tape and Reel; Supplier 1: Mouser; Supplier 1 Part Number: 667-ERJ-PA3F34R0V; Supplier 2: Digi-Key; Supplier 2 Part Number: 10-ERJ-UP3F34R0VTR-ND; Supplier 3: thegioiic; Supplier 3 Part Number: N/A; Manufacturer Part Number: OEM; ComponentLink1Description: Datasheet; ComponentLink1URL: https://api.pim.na.industrial.panasonic.com/file_stream/main/fileversion/4484; Mount: SMD/SMT; Operating Temperature Max: + 85 C; Operating Temperature Min: - 40 C; Package / Case: 0603; LCSC Part #: N/A
footprint RES_0603 (Chip Resistor, 2-Leads, Body 1.55x0.85mm, IPC Medium Density)
pins: 1, 2

## 0006033405
designator R?, comment 34 Ohm, 1/10 W
RES, size 0603, 34 Ohm, 1/10 W, 5%; Manufacturer: OEM; Rated Power: 1/10 W; Resistance: 34 Ohm; Tolerance: +/-5%; Supplier 1 URL: N/A; Supplier 3 URL: N/A; Value: 34 Ohm, 1/10 W; Supplier 2 URL: N/A; Packaging: Tape and Reel; Supplier 1: Mouser; Supplier 1 Part Number: N/A; Supplier 2: Digi-Key; Supplier 2 Part Number: N/A; Supplier 3: thegioiic; Supplier 3 Part Number: N/A; Manufacturer Part Number: OEM; ComponentLink1Description: Datasheet; ComponentLink1URL: N/A; Mount: SMD/SMT; Operating Temperature Max: + 85 C; Operating Temperature Min: - 40 C; Package / Case: 0603; LCSC Part #: N/A
footprint RES_0603 (Chip Resistor, 2-Leads, Body 1.55x0.85mm, IPC Medium Density)
pins: 1, 2

## 0006033445
designator R?, comment 340 kOhm, 1/10 W
RES, size 0603, 340 kOhm, 1/10 W, 5%; Manufacturer: OEM; Rated Power: 1/10 W; Tolerance: +/-5%; Resistance: 340 kOhm; Supplier 1 URL: N/A; Supplier 3 URL: N/A; Value: 340 kOhm, 1/10 W; Supplier 2 URL: N/A; Packaging: Tape and Reel; Supplier 1: Mouser; Supplier 1 Part Number: N/A; Supplier 2: Digi-Key; Supplier 2 Part Number: N/A; Supplier 3: thegioiic; Supplier 3 Part Number: N/A; Manufacturer Part Number: OEM; ComponentLink1Description: Datasheet; ComponentLink1URL: N/A; Mount: SMD/SMT; Operating Temperature Max: + 85 C; Operating Temperature Min: - 40 C; Package / Case: 0603; LCSC Part #: N/A
footprint RES_0603 (Chip Resistor, 2-Leads, Body 1.55x0.85mm, IPC Medium Density)
pins: 1, 2

## 0006033525
designator R?, comment 3.5 kOhm, 1/10 W
RES, size 0603, 3.5 kOhm, 1/10 W, 5%; Manufacturer: OEM; Rated Power: 1/10 W; Tolerance: +/-5%; Resistance: 3.5 kOhm; Supplier 1 URL: N/A; Supplier 3 URL: N/A; Value: 3.5 kOhm, 1/10 W; Supplier 2 URL: N/A; Packaging: Tape and Reel; Supplier 1: Mouser; Supplier 1 Part Number: N/A; Supplier 2: Digi-Key; Supplier 2 Part Number: N/A; Supplier 3: thegioiic; Supplier 3 Part Number: N/A; Manufacturer Part Number: OEM; ComponentLink1Description: Datasheet; ComponentLink1URL: N/A; Mount: SMD/SMT; Operating Temperature Max: + 85 C; Operating Temperature Min: - 40 C; Package / Case: 0603; LCSC Part #: N/A
footprint RES_0603 (Chip Resistor, 2-Leads, Body 1.55x0.85mm, IPC Medium Density)
pins: 1, 2

## 0006033615
designator R?, comment 360 Ohm, 1/10 W
RES, size 0603, 360 Ohm, 1/10 W, 5%; Manufacturer: Panasonic; Manufacturer Part Number: ERJ-PA3J361V; Rated Power: 1/10 W; Resistance: 360 Ohm; Tolerance: +/-5%; Supplier 1 URL: https://www.mouser.vn/ProductDetail/Panasonic/ERJ-PA3J361V?qs=BzJM0faLVqUhDLV4JPGgSA%3D%3D; Supplier 3 URL: N/A; Value: 360 Ohm, 1/10 W; Supplier 2 URL: https://www.digikey.com/en/products/detail/panasonic-electronic-components/ERJ-PA3J361V/5036046?s=N4IgTCBcDaIGxwOwFoCiAlAUsgCgQQGZMC4BGANRAF0BfIA; Packaging: Tape and Reel; Supplier 1: Mouser; Supplier 1 Part Number: 667-ERJ-PA3J361V; Supplier 2: Digi-Key; Supplier 2 Part Number: P360BZTR-ND - Tape & Reel (TR); Supplier 3: thegioiic; Supplier 3 Part Number: N/A; ComponentLink1Description: Datasheet; ComponentLink1URL: https://www.mouser.vn/datasheet/2/315/AOA0000C331-1141874.pdf; Mount: SMD/SMT; Operating Temperature Max: + 85 C; Operating Temperature Min: - 40 C; Package / Case: 0603; LCSC Part #: N/A
footprint RES_0603 (Chip Resistor, 2-Leads, Body 1.55x0.85mm, IPC Medium Density)
pins: 1, 2

## 0006033651
designator R?, comment 3.6 MOhm, 1/10 W
RES, size 0603, 3.6 MOhm, 1/10 W, 1%; Manufacturer: OEM; Rated Power: 1/10 W; Tolerance: +/-1%; Resistance: 3.6 MOhm; Supplier 1 URL: https://www.mouser.vn/ProductDetail/ROHM-Semiconductor/ESR03EZPF3604?qs=sGAEpiMZZMvdGkrng054tywGjayRHxH2%2FxsX8eATj0b%2F79MXXLOFlA%3D%3D; Supplier 3 URL: N/A; Value: 3.6 MOhm, 1/10 W; Supplier 2 URL: https://www.digikey.com/en/products/detail/rohm-semiconductor/ESR03EZPF3604/4007226?s=N4IgjCBcoExaBjKAzAhgGwM4FMA0IB7KAbXADYBWAFgGYQBdfABwBcoQBlFgJwEsA7AOYgAvvjrQQSSGix5CJcGBoRGIVuy58ho-GBgBOCJOmyc%2BIpFI0DMKhQbM2kTjwHCxIGAAYAHA5MUDHMFKxAaADoyAAIAWQB5AAsAW0xHdWcQAFV%2BXhZ45FjsVEwAV25sUU84MIrMXkwWAm4GESA; Packaging: Tape and Reel; Supplier 1: Mouser; Supplier 1 Part Number: 755-ESR03EZPF3604; Supplier 2: Digi-Key; Supplier 2 Part Number: ESR03EZPF3604-ND; Supplier 3: thegioiic; Supplier 3 Part Number: N/A; Manufacturer Part Number: OEM; ComponentLink1Description: Datasheet; ComponentLink1URL: https://fscdn.rohm.com/en/products/databook/datasheet/passive/resistor/chip_resistor/esr-e.pdf; Mount: SMD/SMT; Operating Temperature Max: + 85 C; Operating Temperature Min: - 40 C; Package / Case: 0603; LCSC Part #: N/A
footprint RES_0603 (Chip Resistor, 2-Leads, Body 1.55x0.85mm, IPC Medium Density)
pins: 1, 2

## 0006033655
designator R?, comment 3.6 MOhm, 1/10 W
RES, size 0603, 3.6 MOhm, 1/10 W, 5%; Manufacturer: Panasonic; Manufacturer Part Number: PS03W4J0365T5E; Rated Power: 1/10 W; Tolerance: +/-5%; Resistance: 3.6 MOhm; Supplier 1 URL: https://www.mouser.vn/ProductDetail/Royalohm/PS03W4J0365T5E?qs=e8oIoAS2J1Tdj3KjxH4iAA%3D%3D; Supplier 3 URL: N/A; Value: 3.6 MOhm, 1/10 W; Supplier 2 URL: N/A; Packaging: Tape and Reel; Supplier 1: Mouser; Supplier 1 Part Number: 303-PS03W4J0365T5E; Supplier 2: Digi-Key; Supplier 2 Part Number: N/A; Supplier 3: thegioiic; Supplier 3 Part Number: N/A; ComponentLink1Description: Datasheet; ComponentLink1URL: https://www.mouser.vn/datasheet/2/1365/HighPrecisionPS-2498060.pdf; Mount: SMD/SMT; Operating Temperature Max: + 85 C; Operating Temperature Min: - 40 C; Package / Case: 0603; LCSC Part #: N/A
footprint RES_0603 (Chip Resistor, 2-Leads, Body 1.55x0.85mm, IPC Medium Density)
pins: 1, 2

## 0006033705
designator R?, comment 37 Ohm, 1/10 W
RES, size 0603, 37 Ohm, 1/10 W, 5%; Manufacturer: OEM; Rated Power: 1/10 W; Resistance: 37 Ohm; Tolerance: +/-5%; Supplier 1 URL: N/A; Supplier 3 URL: N/A; Value: 37 Ohm, 1/10 W; Supplier 2 URL: N/A; Packaging: Tape and Reel; Supplier 1: Mouser; Supplier 1 Part Number: N/A; Supplier 2: Digi-Key; Supplier 2 Part Number: N/A; Supplier 3: thegioiic; Supplier 3 Part Number: N/A; Manufacturer Part Number: OEM; ComponentLink1Description: Datasheet; ComponentLink1URL: N/A; Mount: SMD/SMT; Operating Temperature Max: + 85 C; Operating Temperature Min: - 40 C; Package / Case: 0603; LCSC Part #: N/A
footprint RES_0603 (Chip Resistor, 2-Leads, Body 1.55x0.85mm, IPC Medium Density)
pins: 1, 2

## 0006033745
designator R?, comment 370 kOhm, 1/10 W
RES, size 0603, 370 kOhm, 1/10 W, 5%; Manufacturer: OEM; Rated Power: 1/10 W; Tolerance: +/-5%; Resistance: 370 kOhm; Supplier 1 URL: N/A; Supplier 3 URL: N/A; Value: 370 kOhm, 1/10 W; Supplier 2 URL: N/A; Packaging: Tape and Reel; Supplier 1: Mouser; Supplier 1 Part Number: N/A; Supplier 2: Digi-Key; Supplier 2 Part Number: N/A; Supplier 3: thegioiic; Supplier 3 Part Number: N/A; Manufacturer Part Number: OEM; ComponentLink1Description: Datasheet; ComponentLink1URL: N/A; Mount: SMD/SMT; Operating Temperature Max: + 85 C; Operating Temperature Min: - 40 C; Package / Case: 0603; LCSC Part #: N/A
footprint RES_0603 (Chip Resistor, 2-Leads, Body 1.55x0.85mm, IPC Medium Density)
pins: 1, 2

## 0006033835
designator R?, comment 38 kOhm, 1/10 W
RES, size 0603, 38 kOhm, 1/10 W, 5%; Manufacturer: OEM; Rated Power: 1/10 W; Resistance: 38 kOhm; Tolerance: +/-5%; Supplier 1 URL: N/A; Supplier 3 URL: N/A; Value: 38 kOhm, 1/10 W; Supplier 2 URL: N/A; Packaging: Tape and Reel; Supplier 1: Mouser; Supplier 1 Part Number: N/A; Supplier 2: Digi-Key; Supplier 2 Part Number: N/A; Supplier 3: thegioiic; Supplier 3 Part Number: N/A; Manufacturer Part Number: OEM; ComponentLink1Description: Datasheet; ComponentLink1URL: N/A; Mount: SMD/SMT; Operating Temperature Max: + 85 C; Operating Temperature Min: - 40 C; Package / Case: 0603; LCSC Part #: N/A
footprint RES_0603 (Chip Resistor, 2-Leads, Body 1.55x0.85mm, IPC Medium Density)
pins: 1, 2

## 0006033921
designator R?, comment 3.9 kOhm, 1/10 W
RES, size 0603, 3.9 kOhm, 1/10 W, 1%; Manufacturer: YAGEO; Manufacturer Part Number: RC0603FR-073K9L; Rated Power: 1/10 W; Tolerance: +/-1%; Resistance: 3.9 kOhm; Supplier 1 URL: https://www.mouser.vn/ProductDetail/YAGEO/RC0603FR-073K9L?qs=gt6vzsuosg3X3Y%2FaTbREFw%3D%3D; Supplier 3 URL: N/A; Value: 3.9 kOhm, 1/10 W; Supplier 2 URL: N/A; Packaging: Tape and Reel; Supplier 1: Mouser; Supplier 1 Part Number: 603-RC0603FR-073K9L; Supplier 2: Digi-Key; Supplier 2 Part Number: N/A; Supplier 3: thegioiic; Supplier 3 Part Number: N/A; ComponentLink1Description: Datasheet; ComponentLink1URL: https://api.pim.na.industrial.panasonic.com/file_stream/main/fileversion/4484; Mount: SMD/SMT; Operating Temperature Max: + 85 C; Operating Temperature Min: - 40 C; Package / Case: 0603; LCSC Part #: C114616
footprint RES_0603 (Chip Resistor, 2-Leads, Body 1.55x0.85mm, IPC Medium Density)
pins: 1, 2